# EAGLE library part AP1603 (library pimoroni-ics)
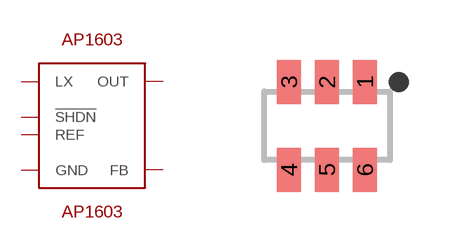
[diagram p82: symbol with the pads of SOT-23-6; footprint SOT-23-6]

Designator prefix -

## AP1603  [SOT-23-6]
1  FB
2  GND
3  REF
4  LX
5  OUT
6  !SHDN

## Footprint SOT-23-6 (pad centres in mm)
smd 0.6 x 1.1: 1 0.95,1.1; 2 0,1.1; 3 -0.95,1.1; 4 -0.95,-1.1; 5 0,-1.1; 6 0.95,-1.1